# EAGLE library part SM11B-SSR-H-TB (library con-jst)
Disconnectable Insulation displacement connector, 1.0mm pitch 11 contacts
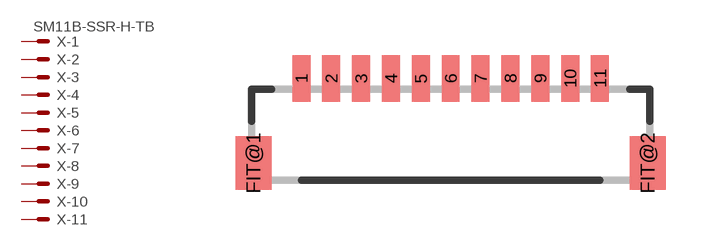
[diagram p37: symbol with the pads of SM11B-SSR-H-TB; footprint SM11B-SSR-H-TB]

Designator prefix X; gates -1=KV -2=K -3=K -4=K -5=K -6=K -7=K -8=K -9=K -10=K -11=K

## SM11B-SSR-H-TB  [SM11B-SSR-H-TB]
1  -1:S  pas
2  -2:S  pas
3  -3:S  pas
4  -4:S  pas
5  -5:S  pas
6  -6:S  pas
7  -7:S  pas
8  -8:S  pas
9  -9:S  pas
10  -10:S  pas
11  -11:S  pas

## Footprint SM11B-SSR-H-TB (pad centres in mm)
Shrouded Header
smd 0.6 x 1.55: 1 -5,1.925; 2 -4,1.925; 3 -3,1.925; 4 -2,1.925; 5 -1,1.925; 6 0,1.925; 7 1,1.925; 8 2,1.925; 9 3,1.925; 10 4,1.925; 11 5,1.925
smd 1.2 x 1.8: FIT@1 -6.6,-0.9; FIT@2 6.6,-0.9